# Altium integrated library WE_WR-BHD_IDC & Transition Connector_2.00 mm_rev15a.IntLib: 8 symbols
Pins are listed as number, name and electrical type; pins without a type are passive.

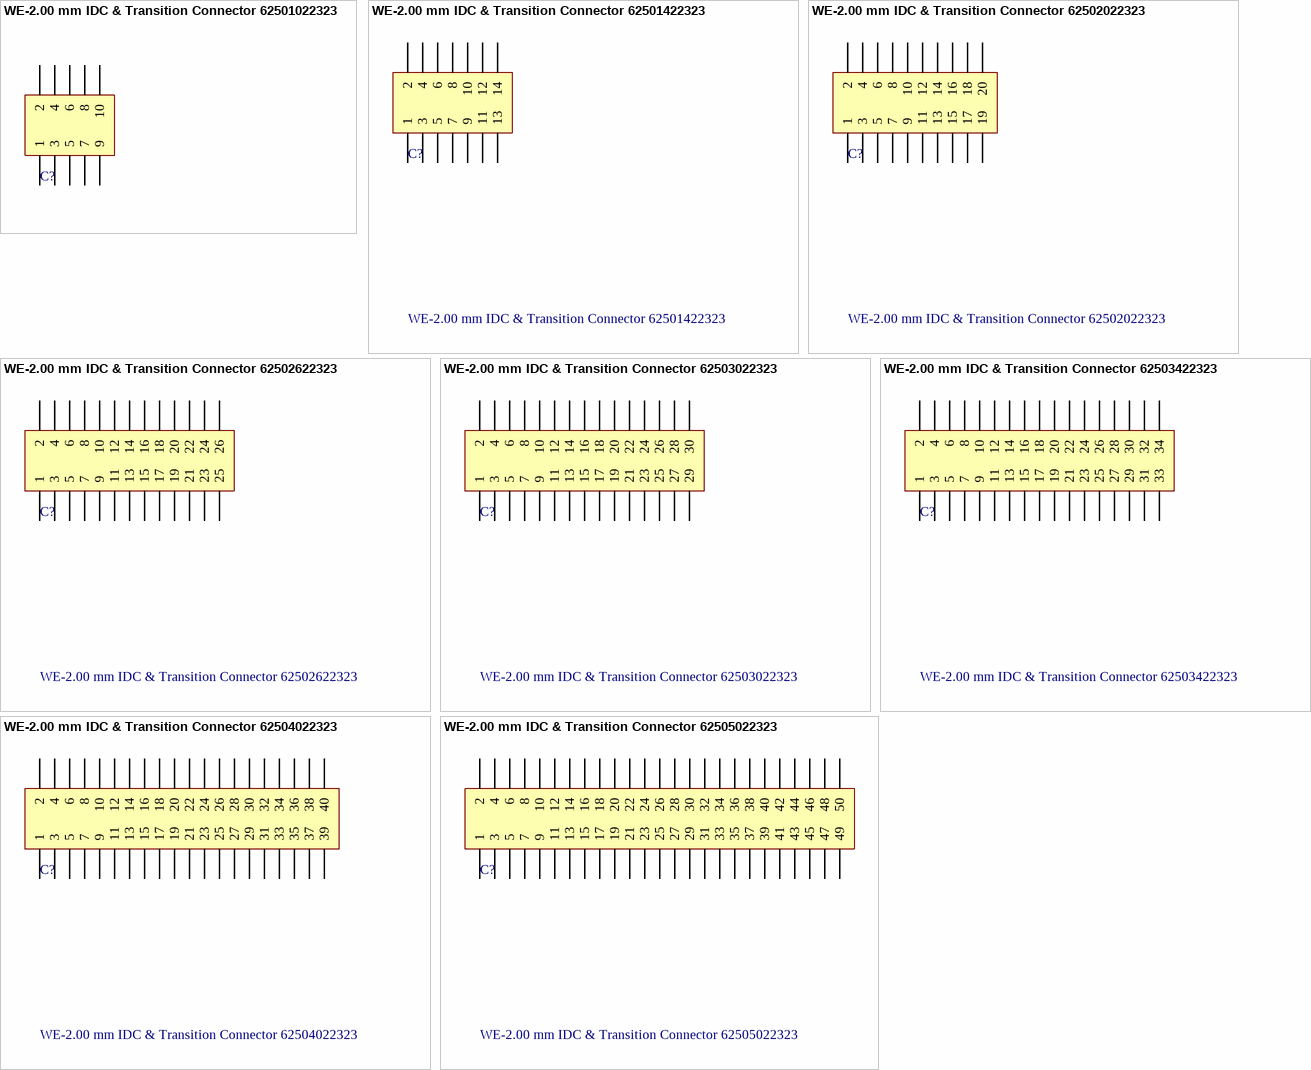
[diagram p0: symbols WE-2.00 mm IDC & Transition Connector 62501022323 to WE-2.00 mm IDC & Transition Connector 62505022323]

## WE-2.00 mm IDC & Transition Connector 62501022323
designator C?
WR-BHD 2.00mm Board To Cable Transition Connector; Manufacturer: Würth Elektronik eiSos GmbH; ComponentLink1 Description: Manufacturer; ComponentLink2 Description: Datasheet; NoPins: 10; Created Date: 14 May 2013; partNo: 62501022323; ComponentLink1URL: http://www.we-online.com; ComponentLink2URL: http://katalog.we-online.de/em/datasheet/6250xx22323.pdf; Created by: Karrer Zheng
footprint 62501022323 (10 pins, selective gold plating)
pins: 1, 2, 3, 4, 5, 6, 7, 8, 9, 10

## WE-2.00 mm IDC & Transition Connector 62501422323
designator C?
WR-BHD 2.00mm Board To Cable Transition Connector; Manufacturer: Würth Elektronik eiSos GmbH; ComponentLink1 Description: Manufacturer; ComponentLink2 Description: Datasheet; NoPins: 14; Created Date: 14 May 2013; partNo: 62501422323; ComponentLink1URL: http://www.we-online.com; ComponentLink2URL: http://katalog.we-online.de/em/datasheet/6250xx22323.pdf; Created by: Karrer Zheng
footprint 62501422323 (14 pins, selective gold plating)
pins: 1, 2, 3, 4, 5, 6, 7, 8, 9, 10, 11, 12, 13, 14

## WE-2.00 mm IDC & Transition Connector 62502022323
designator C?
WR-BHD 2.00mm Board To Cable Transition Connector; Manufacturer: Würth Elektronik eiSos GmbH; ComponentLink1 Description: Manufacturer; ComponentLink2 Description: Datasheet; NoPins: 20; Created Date: 14 May 2013; partNo: 62502022323; ComponentLink1URL: http://www.we-online.com; ComponentLink2URL: http://katalog.we-online.de/em/datasheet/6250xx22323.pdf; Created by: Karrer Zheng
footprint 62502022323 (20 pins, selective gold plating)
pins: 1, 2, 3, 4, 5, 6, 7, 8, 9, 10, 11, 12, 13, 14, 15, 16, 17, 18, 19, 20

## WE-2.00 mm IDC & Transition Connector 62502622323
designator C?
WR-BHD 2.00mm Board To Cable Transition Connector; Manufacturer: Würth Elektronik eiSos GmbH; ComponentLink1 Description: Manufacturer; ComponentLink2 Description: Datasheet; NoPins: 26; Created Date: 14 May 2013; partNo: 62502622323; ComponentLink1URL: http://www.we-online.com; ComponentLink2URL: http://katalog.we-online.de/em/datasheet/6250xx22323.pdf; Created by: Karrer Zheng
footprint 62502622323 (26 pins, selective gold plating)
pins: 1, 2, 3, 4, 5, 6, 7, 8, 9, 10, 11, 12, 13, 14, 15, 16, 17, 18, 19, 20, 21, 22, 23, 24, 25, 26

## WE-2.00 mm IDC & Transition Connector 62503022323
designator C?
WR-BHD 2.00mm Board To Cable Transition Connector; Manufacturer: Würth Elektronik eiSos GmbH; ComponentLink1 Description: Manufacturer; ComponentLink2 Description: Datasheet; NoPins: 30; Created Date: 14 May 2013; partNo: 62503022323; ComponentLink1URL: http://www.we-online.com; ComponentLink2URL: http://katalog.we-online.de/em/datasheet/6250xx22323.pdf; Created by: Karrer Zheng
footprint 62503022323 (30 pins, selective gold plating)
pins: 1, 2, 3, 4, 5, 6, 7, 8, 9, 10, 11, 12, 13, 14, 15, 16, 17, 18, 19, 20, 21, 22, 23, 24, 25, 26, 27, 28, 29, 30

## WE-2.00 mm IDC & Transition Connector 62503422323
designator C?
WR-BHD 2.00mm Board To Cable Transition Connector; Manufacturer: Würth Elektronik eiSos GmbH; ComponentLink1 Description: Manufacturer; ComponentLink2 Description: Datasheet; NoPins: 34; Created Date: 14 May 2013; partNo: 62503422323; ComponentLink1URL: http://www.we-online.com; ComponentLink2URL: http://katalog.we-online.de/em/datasheet/6250xx22323.pdf; Created by: Karrer Zheng
footprint 62503422323 (34 pins, selective gold plating)
pins: 1, 2, 3, 4, 5, 6, 7, 8, 9, 10, 11, 12, 13, 14, 15, 16, 17, 18, 19, 20, 21, 22, 23, 24, 25, 26, 27, 28, 29, 30, 31, 32, 33, 34

## WE-2.00 mm IDC & Transition Connector 62504022323
designator C?
WR-BHD 2.00mm Board To Cable Transition Connector; Manufacturer: Würth Elektronik eiSos GmbH; ComponentLink1 Description: Manufacturer; ComponentLink2 Description: Datasheet; NoPins: 40; Created Date: 14 May 2013; partNo: 62504022323; ComponentLink1URL: http://www.we-online.com; ComponentLink2URL: http://katalog.we-online.de/em/datasheet/6250xx22323.pdf; Created by: Karrer Zheng
footprint 62504022323 (40 pins, selective gold plating)
pins: 1, 2, 3, 4, 5, 6, 7, 8, 9, 10, 11, 12, 13, 14, 15, 16, 17, 18, 19, 20, 21, 22, 23, 24, 25, 26, 27, 28, 29, 30, 31, 32, 33, 34, 35, 36, 37, 38, 39, 40

## WE-2.00 mm IDC & Transition Connector 62505022323
designator C?
WR-BHD 2.00mm Board To Cable Transition Connector; Manufacturer: Würth Elektronik eiSos GmbH; ComponentLink1 Description: Manufacturer; ComponentLink2 Description: Datasheet; NoPins: 50; Created Date: 14 May 2013; partNo: 62505022323; ComponentLink1URL: http://www.we-online.com; ComponentLink2URL: http://katalog.we-online.de/em/datasheet/6250xx22323.pdf; Created by: Karrer Zheng
footprint 62505022323 (50 pins, selective gold plating)
pins: 1, 2, 3, 4, 5, 6, 7, 8, 9, 10, 11, 12, 13, 14, 15, 16, 17, 18, 19, 20, 21, 22, 23, 24, 25, 26, 27, 28, 29, 30, 31, 32, 33, 34, 35, 36, 37, 38, 39, 40, 41, 42, 43, 44, 45, 46, 47, 48, 49, 50